# EAGLE library part MCP3422 (library stutz-eagle)
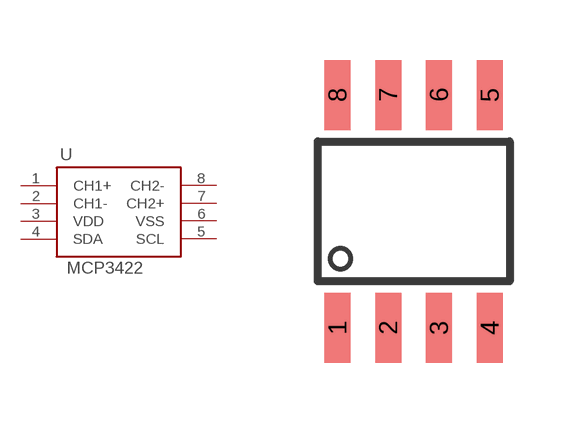
[diagram p14: symbol with the pads of SOIC8; footprint SOIC8]

Designator prefix -

## MCP3422  [SOIC8]
1  CH1+  in
2  CH1-  in
3  VDD  pwr
4  SDA
5  SCL  in
6  VSS  pwr
7  CH2+  in
8  CH2-  in

## Footprint SOIC8 (pad centres in mm)
smd 0.65 x 1.75: 1 -1.905,-2.915; 2 -0.635,-2.915; 3 0.635,-2.915; 4 1.905,-2.915; 5 1.905,2.915; 6 0.635,2.915; 7 -0.635,2.915; 8 -1.905,2.915